# Altium footprint library LTC3539EDCBTRMPBF.PcbLib: 1 footprints
Each footprint in its own frame and in the unit in brackets; x right, y up, seen from the top. Pads: shape width x height; smd on the part's side, far side on the other; paste and mask are expansions set on the pad; w line width, h text height; cw(c..) or ccw(c..) is an arc to the next point about the centre after c.
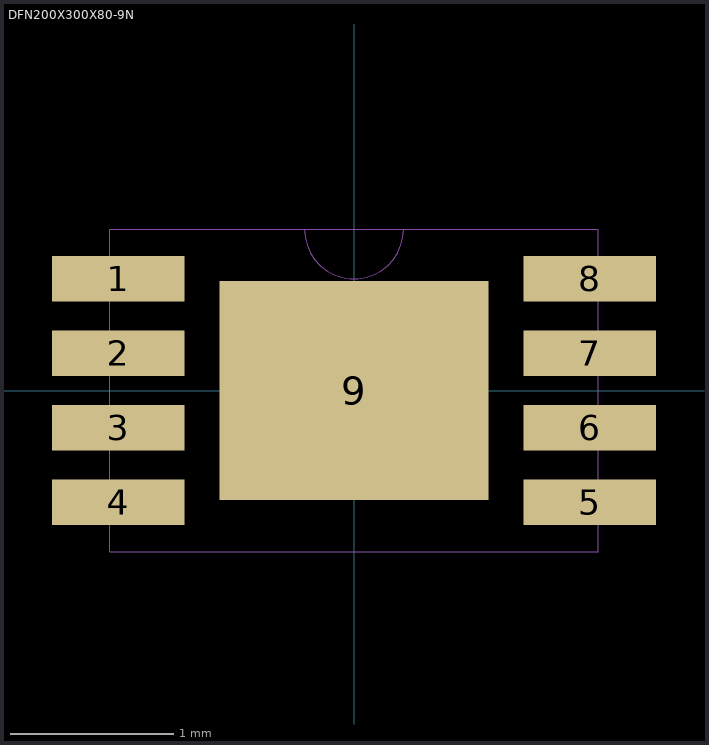
[diagram p0: the footprint, top view; thin cyan lines are the x and y axes]

## DFN200X300X80-9N [mil]
pads (9):
  rect 32x11 smd paste-1000 mask-1000: 1(-57,27) 2(-57,9) 3(-57,-9) 4(-57,-27) 5(57,-27) 6(57,-9) 7(57,9) 8(57,27)
  rect 65x53 smd paste-1000 mask-1000: 9(0,0)
Top Paste:
  region: -32.5,-26.5 32.5,-26.5 32.5,26.5 -32.5,26.5
  region: 41,21.5 73,21.5 73,32.5 41,32.5
  region: 41,3.5 73,3.5 73,14.5 41,14.5
  region: 41,-14.5 73,-14.5 73,-3.5 41,-3.5
  region: 41,-32.5 73,-32.5 73,-21.5 41,-21.5
  region: -73,-32.5 -41,-32.5 -41,-21.5 -73,-21.5
  region: -73,-14.5 -41,-14.5 -41,-3.5 -73,-3.5
  region: -73,3.5 -41,3.5 -41,14.5 -73,14.5
  region: -73,21.5 -41,21.5 -41,32.5 -73,32.5
Top Solder:
  region: -36.44,-30.44 36.44,-30.44 36.44,30.44 -36.44,30.44
  region: 37.06,17.56 76.94,17.56 76.94,36.44 37.06,36.44
  region: 37.06,-0.44 76.94,-0.44 76.94,18.44 37.06,18.44
  region: 37.06,-18.44 76.94,-18.44 76.94,0.44 37.06,0.44
  region: 37.06,-36.44 76.94,-36.44 76.94,-17.56 37.06,-17.56
  region: -76.94,-36.44 -37.06,-36.44 -37.06,-17.56 -76.94,-17.56
  region: -76.94,-18.44 -37.06,-18.44 -37.06,0.44 -76.94,0.44
  region: -76.94,-0.44 -37.06,-0.44 -37.06,18.44 -76.94,18.44
  region: -76.94,17.56 -37.06,17.56 -37.06,36.44 -76.94,36.44
Mechanical 1:
  lines w0: -12,39 ccw(c0,39) 12,39 ; -12,39 -59,39 -59,-39 59,-39 59,39 12,39 ; -12,39 12,39